# EAGLE library part MAX6510 (library Traficon)
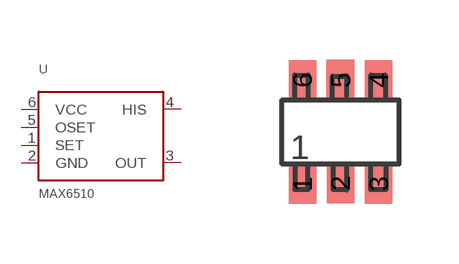
[diagram p15: symbol with the pads of SOT-23-6.PAC; footprint SOT-23-6.PAC]

Designator prefix U

## MAX6510  [SOT-23-6.PAC]
1  SET  in
2  GND  pas
3  OUT
4  HIS  in
5  OSET  in
6  VCC  pas

## Footprint SOT-23-6.PAC (pad centres in mm)
smd 0.686 x 0.991: 1 -0.953,-1.295; 2 0,-1.283; 3 0.953,-1.295; 4 0.953,1.295; 6 -0.953,1.295
smd 0.7 x 1: 5 0,1.3